# Altium schematic symbol library compute.SchLib: 2 symbols
Pins are listed as number, name and electrical type; pins without a type are passive.

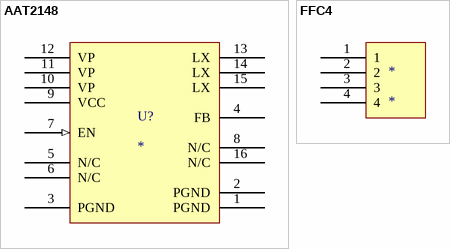
[diagram p0: symbols AAT2148 to FFC4]

## AAT2148
designator U?
footprint RGV16_M (16-Pin Plastic Quad Flat No-Lead 0.65 mm Pitch, IPC Low Density)
pins: 1 PGND (power), 2 PGND (power), 3 PGND (power), 4 FB (hiz), 5 N/C, 6 N/C, 7 EN (in), 8 N/C, 9 VCC (power), 10 VP (power), 11 VP (power), 12 VP (power), 13 LX, 14 LX, 15 LX, 16 N/C

## FFC4
designator *
footprint FFC/SM1.0-2H4 (Connector; FH12 Series; 4 Position; 1.0mm Spaced Bottom Eccentric Contact)
pins: 1, 2, 3, 4